# EAGLE library part ARDUINO_MICRO (library OpenBionics)
Breakout Board for Arduino Micro
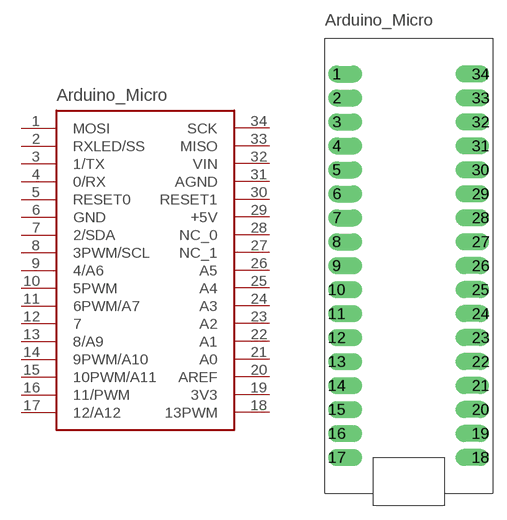
[diagram p1: symbol with the pads of ARDUINO_MICRO; footprint ARDUINO_MICRO]

Designator prefix -

## ARDUINO_MICROARDUINO_BOARD  [ARDUINO_MICRO]
1  MOSI
2  RXLED/SS
3  1/TX
4  0/RX
5  RESET0
6  GND
7  2/SDA
8  3PWM/SCL
9  4/A6
10  5PWM
11  6PWM/A7
12  7
13  8/A9
14  9PWM/A10
15  10PWM/A11
16  11/PWM
17  12/A12
18  13PWM
19  3V3
20  AREF
21  A0
22  A1
23  A2
24  A3
25  A4
26  A5
27  NC_1  nc
28  NC_0  nc
29  +5V
30  RESET1
31  AGND
32  VIN
33  MISO
34  SCK

## Footprint ARDUINO_MICRO (pad centres in mm)
Breakout Board for Arduino micro
drill 1 pad 1.778 offset: 1 -7.62,20.32; 2 -7.62,17.78; 3 -7.62,15.24; 4 -7.62,12.7; 5 -7.62,10.16; 6 -7.62,7.62; 7 -7.62,5.08; 8 -7.62,2.54; 9 -7.62,0; 10 -7.62,-2.54; 11 -7.62,-5.08; 12 -7.62,-7.62; 13 -7.62,-10.16; 14 -7.62,-12.7; 15 -7.62,-15.24; 16 -7.62,-17.78; 17 -7.62,-20.32; 18 7.62,-20.32; 19 7.62,-17.78; 20 7.62,-15.24; 21 7.62,-12.7; 22 7.62,-10.16; 23 7.62,-7.62; 24 7.62,-5.08; 25 7.62,-2.54; 26 7.62,0; 27 7.62,2.54; 28 7.62,5.08; 29 7.62,7.62; 30 7.62,10.16; 31 7.62,12.7; 32 7.62,15.24; 33 7.62,17.78; 34 7.62,20.32